# EAGLE library part SODIMM-LOCUX-SPECIAL (library BaseApp)
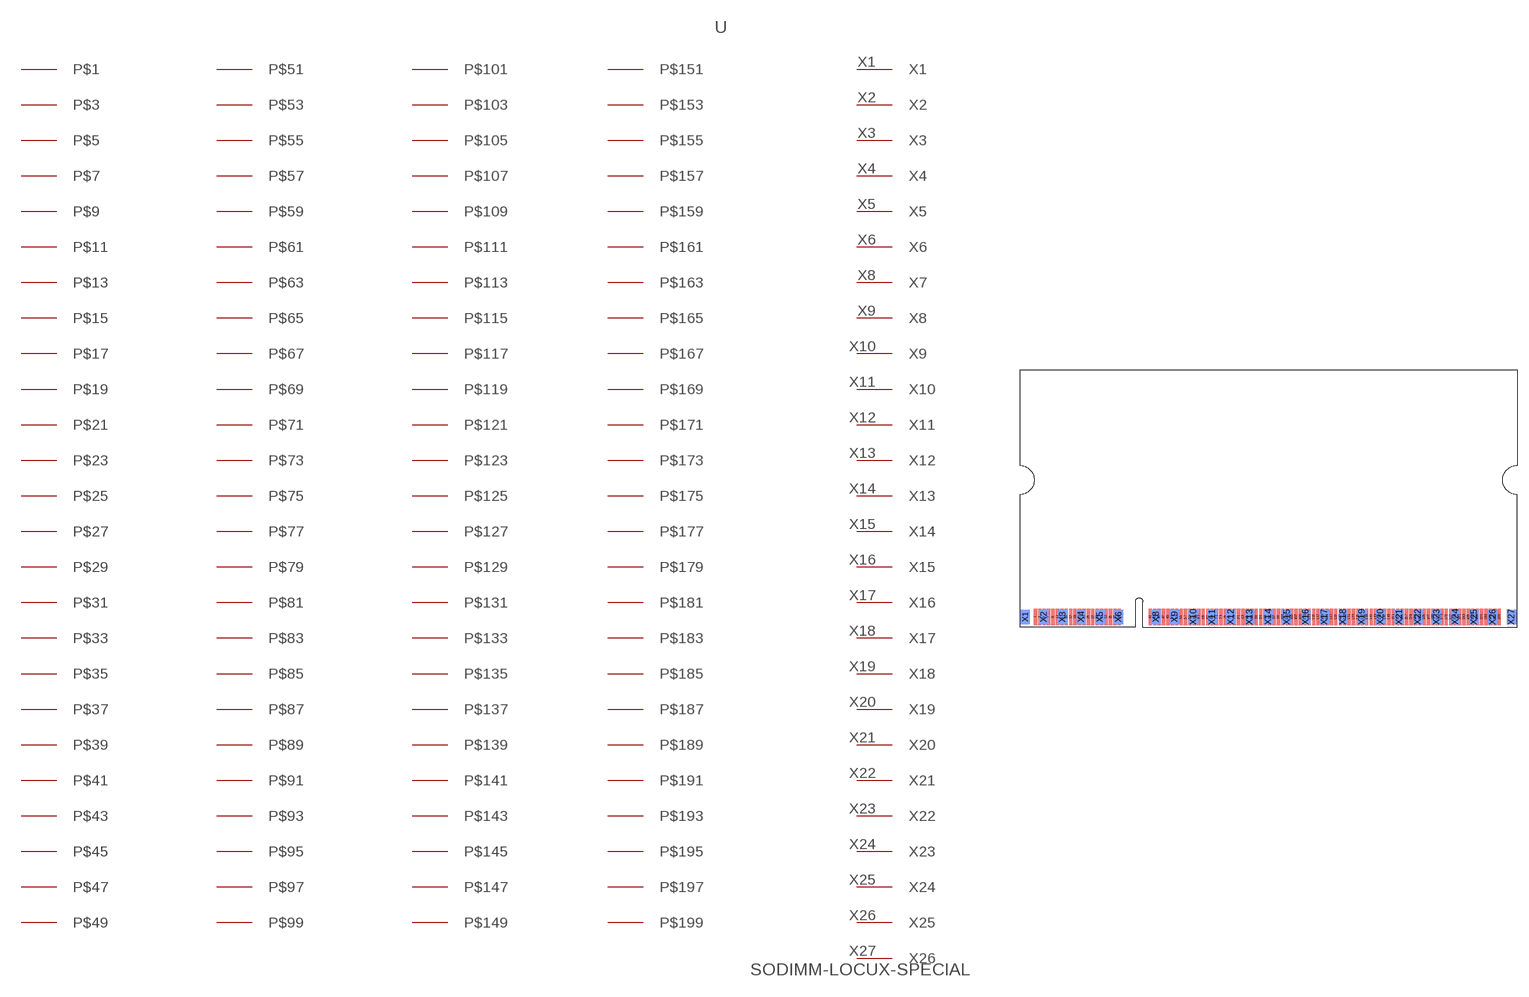
[diagram p49: symbol with the pads of SODIMM-LOCUX-SPECIAL; footprint SODIMM-LOCUX-SPECIAL]

Designator prefix -

## SODIMM-LOCUX-SPECIAL  [SODIMM-LOCUX-SPECIAL]
1  P$1
3  P$3
5  P$5
7  P$7
9  P$9
11  P$11
13  P$13
15  P$15
17  P$17
19  P$19
21  P$21
23  P$23
25  P$25
27  P$27
29  P$29
31  P$31
33  P$33
35  P$35
37  P$37
39  P$39
41  P$41
43  P$43
45  P$45
47  P$47
49  P$49
51  P$51
53  P$53
55  P$55
57  P$57
59  P$59
61  P$61
63  P$63
65  P$65
67  P$67
69  P$69
71  P$71
73  P$73
75  P$75
77  P$77
79  P$79
81  P$81
83  P$83
85  P$85
87  P$87
89  P$89
91  P$91
93  P$93
95  P$95
97  P$97
99  P$99
101  P$101
103  P$103
105  P$105
107  P$107
109  P$109
111  P$111
113  P$113
115  P$115
117  P$117
119  P$119
121  P$121
123  P$123
125  P$125
127  P$127
129  P$129
131  P$131
133  P$133
135  P$135
137  P$137
139  P$139
141  P$141
143  P$143
145  P$145
147  P$147
149  P$149
151  P$151
153  P$153
155  P$155
157  P$157
159  P$159
161  P$161
163  P$163
165  P$165
167  P$167
169  P$169
171  P$171
173  P$173
175  P$175
177  P$177
179  P$179
181  P$181
183  P$183
185  P$185
187  P$187
189  P$189
191  P$191
193  P$193
195  P$195
197  P$197
199  P$199
X1  X1
X2  X2
X3  X3
X4  X4
X5  X5
X6  X6
X8  X7
X9  X8
X10  X9
X11  X10
X12  X11
X13  X12
X14  X13
X15  X14
X16  X15
X17  X16
X18  X17
X19  X18
X20  X19
X21  X20
X22  X21
X23  X22
X24  X23
X25  X24
X26  X25
X27  X26

## Footprint SODIMM-LOCUX-SPECIAL (pad centres in mm)
smd 0.45 x 2.3: 1 2.15,1.4; 3 2.75,1.4; 5 3.35,1.4; 7 3.95,1.4; 9 4.55,1.4; 11 5.15,1.4; 13 5.75,1.4; 15 6.35,1.4; 17 6.95,1.4; 19 7.55,1.4; 21 8.15,1.4; 23 8.75,1.4; 25 9.35,1.4; 27 9.95,1.4; 29 10.55,1.4; 31 11.15,1.4; 33 11.75,1.4; 35 12.35,1.4; 37 12.95,1.4; 39 13.55,1.4; 41 17.75,1.4; 43 18.35,1.4; 45 18.95,1.4; 47 19.55,1.4; 49 20.15,1.4; 51 20.75,1.4; 53 21.35,1.4; 55 21.95,1.4; 57 22.55,1.4; 59 23.15,1.4; 61 23.75,1.4; 63 24.35,1.4; 65 24.95,1.4; 67 25.55,1.4; 69 26.15,1.4; 71 26.75,1.4; 73 27.35,1.4; 75 27.95,1.4; 77 28.55,1.4; 79 29.15,1.4; 81 29.75,1.4; 83 30.35,1.4; 85 30.95,1.4; 87 31.55,1.4; 89 32.15,1.4; 91 32.75,1.4; 93 33.35,1.4; 95 33.95,1.4; 97 34.55,1.4; 99 35.15,1.4; 101 35.75,1.4; 103 36.35,1.4; 105 36.95,1.4; 107 37.55,1.4; 109 38.15,1.4; 111 38.75,1.4; 113 39.35,1.4; 115 39.95,1.4; 117 40.55,1.4; 119 41.15,1.4; 121 41.75,1.4; 123 42.35,1.4; 125 42.95,1.4; 127 43.55,1.4; 129 44.15,1.4; 131 44.75,1.4; 133 45.35,1.4; 135 45.95,1.4; 137 46.55,1.4; 139 47.15,1.4; 141 47.75,1.4; 143 48.35,1.4; 145 48.95,1.4; 147 49.55,1.4; 149 50.15,1.4; 151 50.75,1.4; 153 51.35,1.4; 155 51.95,1.4; 157 52.55,1.4; 159 53.15,1.4; 161 53.75,1.4; 163 54.35,1.4; 165 54.95,1.4; 167 55.55,1.4; 169 56.15,1.4; 171 56.75,1.4; 173 57.35,1.4; 175 57.95,1.4; 177 58.55,1.4; 179 59.15,1.4; 181 59.75,1.4; 183 60.35,1.4; 185 60.95,1.4; 187 61.55,1.4; 189 62.15,1.4; 191 62.75,1.4; 193 63.35,1.4; 195 63.95,1.4; 197 64.55,1.4; 199 65.15,1.4
smd 1.2 x 2 bottom: X1 0.762,1.41
smd 1.25 x 2 bottom: X2 3.302,1.41; X3 5.842,1.41; X4 8.382,1.41; X5 10.922,1.41; X6 13.462,1.41; X8 18.542,1.41; X9 21.082,1.41; X10 23.622,1.41; X11 26.162,1.41; X12 28.702,1.41; X13 31.242,1.41; X14 33.782,1.41; X15 36.322,1.41; X16 38.862,1.41; X17 41.402,1.41; X18 43.942,1.41; X19 46.482,1.41; X20 49.022,1.41; X21 51.562,1.41; X22 54.102,1.41; X23 56.642,1.41; X24 59.182,1.41; X25 61.722,1.41; X26 64.262,1.41; X27 66.802,1.41